# Altium footprint library ic.PcbLib: 16 footprints
Each footprint in its own frame and in the unit in brackets; x right, y up, seen from the top. Pads: shape width x height; smd on the part's side, far side on the other; paste and mask are expansions set on the pad; w line width, h text height; cw(c..) or ccw(c..) is an arc to the next point about the centre after c.
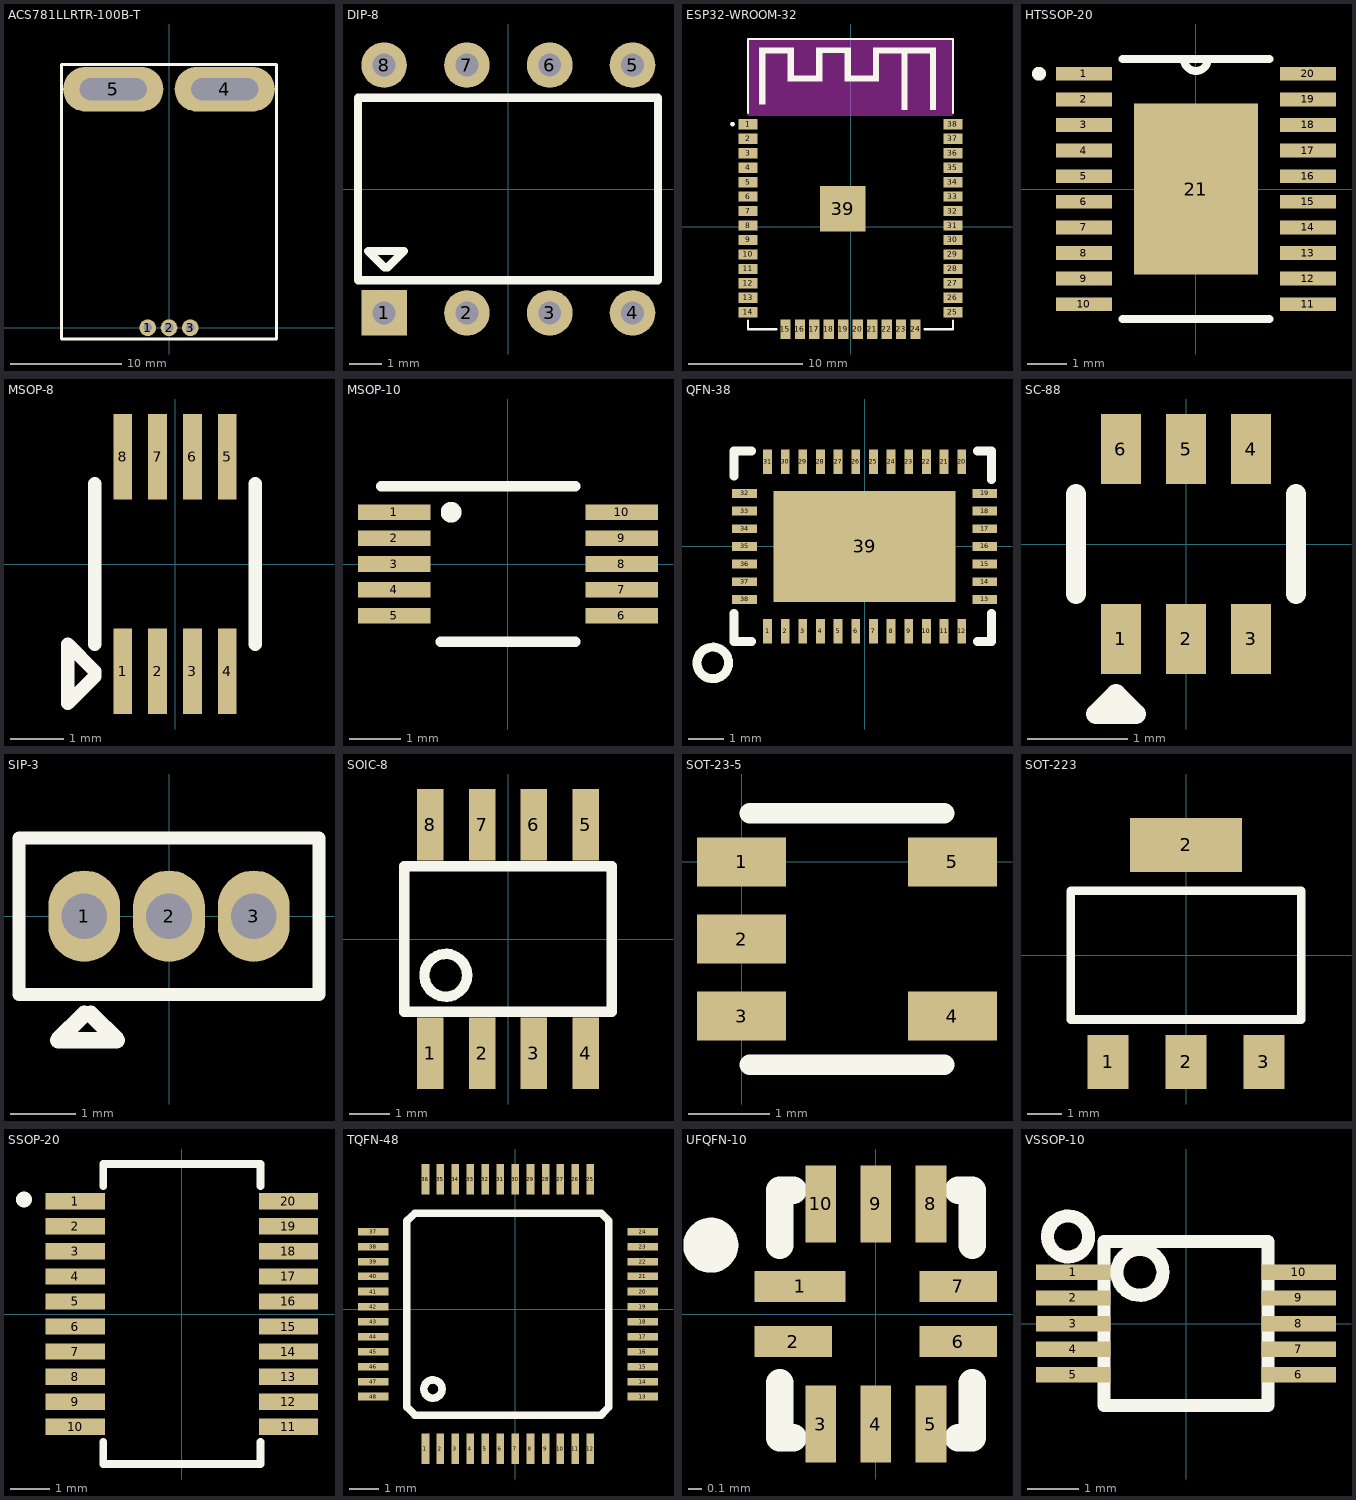
[diagram p0: the footprints below, top view; thin cyan lines are the x and y axes]

## ACS781LLRTR-100B-T [mm]
pads (5):
  round 1.5 hole 0.8: 1(-1.91,0) 2(0,0) 3(1.91,0)
  rrect100% 9x4 hole 2 slot 6 at 0 deg: 4(5,21.4) 5(-5,21.4)
Top Overlay:
  lines w0.254: -9.652,-1.016 9.652,-1.016 9.652,23.622 -9.652,23.622 -9.652,-1.016
3D body "Allegro-CA-CB-PFF-Package.STEP": height 9.07, standoff -1.47, extent -6.952,-0.563 7.048,22.253

## DIP-8 [mm]
pads (8):
  rect 1.4x1.4 hole 0.7: 1(-3.81,-3.8)
  round 1.4 hole 0.7: 2(-1.27,-3.8) 3(1.27,-3.8) 4(3.81,-3.8) 5(3.81,3.8) 6(1.27,3.8) 7(-1.27,3.8) 8(-3.81,3.8)
Top Overlay:
  lines w0.254: -4.61,-2.8 -4.61,2.8 4.59,2.8 4.59,-2.8 -4.61,-2.8 ; -4.3,-1.9 -3.2,-1.9 -3.7,-2.4 -3.8,-2.4 -4.3,-1.9
3D body "DIP8.STEP": height 3.85, standoff -2, extent -4.61,-4.035 4.59,3.835

## ESP32-WROOM-32 [mm]
pads (39):
  rect 1.7x0.9 smd: 1(-9,9.005) 2(-9,7.735) 3(-9,6.465) 4(-9,5.195) 5(-9,3.925) 6(-9,2.655) 7(-9,1.385) 8(-9,0.115) 9(-9,-1.155) 10(-9,-2.425) 11(-9,-3.695) 12(-9,-4.965) 13(-9,-6.235) 14(-9,-7.505) 25(9,-7.505) 26(9,-6.235) 27(9,-4.965) 28(9,-3.695) 29(9,-2.425) 30(9,-1.155) 31(9,0.115) 32(9,1.385) 33(9,2.655) 34(9,3.925) 35(9,5.195) 36(9,6.465) 37(9,7.735) 38(9,9.005)
  rect 0.9x1.7 smd: 15(-5.715,-9.005) 16(-4.445,-9.005) 17(-3.175,-9.005) 18(-1.905,-9.005) 19(-0.635,-9.005) 20(0.635,-9.005) 21(1.905,-9.005) 22(3.175,-9.005) 23(4.445,-9.005) 24(5.715,-9.005)
  rect 4x4 smd: 39(-0.7,1.595)
Top Overlay:
  circle w0.2: c-10.365,9.025 r0.1
  region: 2.008,15.75 2.5,15.75 2.5,14.304 2.008,14.304
  region: -8.02,11.25 -7.5,11.25 -7.5,10.775 -8.02,10.775
  region: 4.508,10.75 5,10.75 5,10.267 4.508,10.267
  region: 7.019,10.75 7.5,10.75 7.5,10.276 7.019,10.276
  region: 4.514,15.75 5,15.75 5,10.781 4.514,10.781
  region: 7.021,15.75 7.5,15.75 7.5,10.78 7.021,10.78
  region: 2.012,15.75 7.5,15.75 7.5,15.264 2.012,15.264
  region: 2.009,15.25 2.5,15.25 2.5,12.803 2.009,12.803
  region: -0.502,13.25 2.5,13.25 2.5,12.8 -0.502,12.8
  region: -0.502,15.25 0,15.25 0,12.799 -0.502,12.799
  region: -3.01,15.75 0,15.75 0,15.299 -3.01,15.299
  region: -3.01,15.25 -2.5,15.25 -2.5,12.791 -3.01,12.791
  region: -5.508,13.25 -2.5,13.25 -2.5,12.768 -5.508,12.768
  region: -5.522,15.25 -5,15.25 -5,12.797 -5.522,12.797
  region: -8.009,15.75 -5,15.75 -5,15.266 -8.009,15.266
  region: -8.022,15.75 -7.5,15.75 -7.5,11.279 -8.022,11.279
  lines w0.2: -9,-8.25 -9,-9 -6.5,-9 ; -9,10 -9,16.5 9,16.5 9,10 ; 6.5,-9 9,-9 9,-8.25
Keep-Out Layer:
  region: -9.024,16.5 9,16.5 9,9.774 -9.024,9.774
  region: -9.012,16.5 9,16.5 9,9.762 -9.012,9.762
  region: -9.026,16.5 9,16.5 9,9.776 -9.026,9.776
  region: -9.024,16.5 9,16.5 9,9.774 -9.024,9.774
  region: -9.012,16.5 9,16.5 9,9.762 -9.012,9.762
  region: -9.026,16.5 9,16.5 9,9.776 -9.026,9.776
  region: -9.024,16.5 9,16.5 9,9.774 -9.024,9.774
  region: -9.012,16.5 9,16.5 9,9.762 -9.012,9.762
  region: -9.026,16.5 9,16.5 9,9.776 -9.026,9.776
3D body "esp-wroom-32.stp": height 3, standoff -0.04, extent -9.035,-9.04 9.035,16.5

## HTSSOP-20 [mil]
pads (21):
  rect 56x13.78 smd: 1(-112,115.16) 2(-112,89.57) 3(-112,63.98) 4(-112,38.39) 5(-112,12.8) 6(-112,-12.8) 7(-112,-38.39) 8(-112,-63.98) 9(-112,-89.57) 10(-112,-115.16) 11(112,-115.16) 12(112,-89.57) 13(112,-63.98) 14(112,-38.39) 15(112,-12.8) 16(112,12.8) 17(112,38.39) 18(112,63.98) 19(112,89.57) 20(112,115.16)
  rect 124x171 smd: 21(0,0)
Top Overlay:
  circle w7.87: c-156.8,115.16 r3
  lines w7.87: -73.51,-130 73.51,-130 ; -73.51,130 73.51,130 ; -12,130 ccw(c0,130) 12,130
3D body "!1_@_0 _ TSSOP-20.stp": height 51.18, standoff -0.73, extent -125.99,-126.83 126.59,129.07

## MSOP-8 [mm]
pads (8):
  rect 0.35x1.6 smd: 1(-0.975,-2) 2(-0.325,-2) 3(0.325,-2) 4(0.975,-2) 5(0.975,2) 6(0.325,2) 7(-0.325,2) 8(-0.975,2)
Top Overlay:
  lines w0.254: -1.5,-1.5 -1.5,1.5 ; 1.5,-1.5 1.5,1.5 ; -2,-2.6 -2,-1.5 -1.5,-2 -1.5,-2.1 -2,-2.6
3D body "User Library-MSOP-8-4.step": height 0.96, standoff 0, extent -1.5,-2.45 1.5,2.45

## MSOP-10 [mm]
pads (10):
  rect 1.4x0.3 smd: 1(-2.2,1) 2(-2.2,0.5) 3(-2.2,0) 4(-2.2,-0.5) 5(-2.2,-1) 6(2.2,-1) 7(2.2,-0.5) 8(2.2,0) 9(2.2,0.5) 10(2.2,1)
Top Overlay:
  circle w0.2: c-1.1,1 r0.1
  lines w0.2: -2.45,1.5 1.3,1.5 ; -1.3,-1.5 1.3,-1.5
3D body "MSOP10-3-0.5mm.STEP": height 1.1, standoff 0, extent -2.45,-1.5 2.45,1.5

## QFN-38 [mm]
pads (39):
  rect 0.25x0.7 smd: 1(-2.75,-2.4) 2(-2.25,-2.4) 3(-1.75,-2.4) 4(-1.25,-2.4) 5(-0.75,-2.4) 6(-0.25,-2.4) 7(0.25,-2.4) 8(0.75,-2.4) 9(1.25,-2.4) 10(1.75,-2.4) 11(2.25,-2.4) 12(2.75,-2.4) 20(2.75,2.4) 21(2.25,2.4) 22(1.75,2.4) 23(1.25,2.4) 24(0.75,2.4) 25(0.25,2.4) 26(-0.25,2.4) 27(-0.75,2.4) 28(-1.25,2.4) 29(-1.75,2.4) 30(-2.25,2.4) 31(-2.75,2.4)
  rect 0.7x0.25 smd: 13(3.4,-1.5) 14(3.4,-1) 15(3.4,-0.5) 16(3.4,0) 17(3.4,0.5) 18(3.4,1) 19(3.4,1.5) 32(-3.4,1.5) 33(-3.4,1) 34(-3.4,0.5) 35(-3.4,0) 36(-3.4,-0.5) 37(-3.4,-1) 38(-3.4,-1.5)
  rect 5.15x3.15 smd paste-100: 39(0,0)
Top Overlay:
  circle w0.254: c-4.3,-3.3 r0.447
  lines w0.254: -3.7,-1.9 -3.7,-2.7 -3.2,-2.7 ; -3.7,2 -3.7,2.7 -3.2,2.7 ; 3.2,-2.7 3.6,-2.7 3.6,-1.9 ; 3.2,2.7 3.6,2.7 3.6,1.9
Top Paste:
  rectangle: 1,0.3 2,1.3
  rectangle: 1,-1.3 2,-0.3
  rectangle: -0.5,0.3 0.5,1.3
  rectangle: -0.5,-1.3 0.5,-0.3
  rectangle: -2,-1.3 -1,-0.3
  rectangle: -2,0.3 -1,1.3
3D body "User Library-QFN-38.X_T": height 1.04, standoff -0.09, extent -3.51,-2.55 3.51,2.47

## SC-88 [mm]
pads (6):
  rect 0.4x0.7 smd: 1(-0.65,-0.95) 2(0,-0.95) 3(0.65,-0.95) 4(0.65,0.95) 5(0,0.95) 6(-0.65,0.95)
Top Overlay:
  lines w0.2: -1.1,-0.5 -1.1,0.5 ; 1.1,-0.5 1.1,0.5 ; -0.9,-1.7 -0.5,-1.7 -0.7,-1.5 -0.9,-1.7
3D body "SC-88.stp": height 1.1, standoff 0, extent -1.1,-1.2 1.1,1.2

## SIP-3 [mm]
pads (3):
  oval 1.1x1.4 hole 0.7: 1(-1.3,0) 2(0,0) 3(1.3,0)
Top Overlay:
  lines w0.2: -2.3,-1.2 2.3,-1.2 2.3,1.2 -2.3,1.2 -2.3,-1.2
  lines w0.254: -1.3,-1.5 -1.7,-1.9 -0.8,-1.9 -1.2,-1.5
3D body "E-Line.step": height 3.9, standoff -5, extent -2.285,-1.14 2.285,1.14

## SOIC-8 [mm]
pads (8):
  rect 0.65x1.75 smd: 1(-1.905,-2.8) 2(-0.635,-2.8) 3(0.635,-2.8) 4(1.905,-2.8) 5(1.905,2.8) 6(0.635,2.8) 7(-0.635,2.8) 8(-1.905,2.8)
Top Overlay:
  circle w0.254: c-1.524,-0.889 r0.524
  lines w0.254: -2.54,-1.778 -2.54,1.778 2.54,1.778 2.54,-1.778 -2.54,-1.778
3D body "S08.stp": height 1.55, standoff 0, extent -2.445,-3 2.455,3

## SOT-23-5 [mm]
pads (5):
  rect 1.1x0.6 smd: 1(0,0) 2(0,-0.95) 3(0,-1.9) 4(2.6,-1.9) 5(2.6,0)
Top Overlay:
  lines w0.254: 0.1,-2.5 2.5,-2.5 ; 0.1,0.6 2.5,0.6
3D body "SOT23_5.stp": height 0.92, standoff 0.01, extent -0.302,-2.45 2.902,0.55

## SOT-223 [mm]
pads (4):
  rect 1.2x1.6 smd: 1(-2.3,-3.15) 2(0,-3.15) 3(2.3,-3.15)
  rect 3.3x1.6 smd: 2(0,3.25)
Top Overlay:
  lines w0.254: -3.4,-1.9 3.4,-1.9 3.4,1.9 -3.4,1.9 -3.4,-1.9
3D body "SOT223.STEP": height 1.6, standoff -0.1, extent -3.25,-3.562 3.25,3.462

## SSOP-20 [mm]
pads (20):
  rect 1.5x0.41 smd: 1(-2.7,2.857) 2(-2.7,2.222) 3(-2.7,1.587) 4(-2.7,0.953) 5(-2.7,0.318) 6(-2.7,-0.318) 7(-2.7,-0.953) 8(-2.7,-1.587) 9(-2.7,-2.222) 10(-2.7,-2.857) 11(2.7,-2.857) 12(2.7,-2.222) 13(2.7,-1.587) 14(2.7,-0.953) 15(2.7,-0.318) 16(2.7,0.318) 17(2.7,0.953) 18(2.7,1.587) 19(2.7,2.222) 20(2.7,2.857)
Top Overlay:
  circle w0.2: c-4,2.9 r0.1
  lines w0.2: -1.99,-3.24 -1.99,-3.8 1.99,-3.8 1.99,-3.24 ; -1.99,3.24 -1.99,3.8 1.99,3.8 1.99,3.24
3D body "SSOP20L-150-0.64.STEP": height 1.63, standoff 0, extent -2.997,-3.725 2.997,3.725

## TQFN-48 [mil]
pads (48):
  rect 10x40 smd: 1(-118.27,-184.17) 2(-98.58,-184.17) 3(-78.9,-184.17) 4(-59.21,-184.17) 5(-39.53,-184.17) 6(-19.84,-184.17) 7(0,-184.17) 8(20,-184.17) 9(40,-184.17) 10(59,-184.17) 11(79,-184.17) 12(99,-184.17) 25(99,171) 26(79,171) 27(59,171) 28(40,171) 29(20,171) 30(0,171) 31(-19.84,171) 32(-39.53,171) 33(-59.21,171) 34(-78.9,171) 35(-98.58,171) 36(-118.27,171)
  rect 40x10 smd: 13(168,-115.27) 14(168,-95.58) 15(168,-75.9) 16(168,-56.21) 17(168,-36.53) 18(168,-16.84) 19(168,3) 20(168,23) 21(168,43) 22(168,62) 23(168,82) 24(168,102) 37(-187.17,102) 38(-187.17,82) 39(-187.17,62) 40(-187.17,43) 41(-187.17,23) 42(-187.17,3) 43(-187.17,-16.84) 44(-187.17,-36.53) 45(-187.17,-56.21) 46(-187.17,-75.9) 47(-187.17,-95.58) 48(-187.17,-115.27)
Top Overlay:
  circle w10: c-108.43,-105.43 r12
  lines w10: -142.87,-129.05 -132.05,-139.87 113,-139.87 123,-129.05 123,116 113,126 -132.05,126 -142.87,116 -142.87,-129.05
3D body "User Library-TQFP48.step": height 43.31, standoff 0, extent -187.51,-184.5 167.51,170.51

## UFQFN-10 [mm]
pads (10):
  rect 0.663x0.225 smd: 1(-0.55,0.2)
  rect 0.563x0.225 smd: 2(-0.6,-0.2) 6(0.6,-0.2) 7(0.6,0.2)
  rect 0.225x0.563 smd: 3(-0.4,-0.8) 4(0,-0.8) 5(0.4,-0.8) 8(0.4,0.8) 9(0,0.8) 10(-0.4,0.8)
Top Overlay:
  circle w0.2: c-1.2,0.5 r0.1
  lines w0.2: -0.7,-0.5 -0.7,-0.9 -0.6,-0.9 ; -0.7,0.5 -0.7,0.9 -0.6,0.9 ; 0.6,-0.9 0.7,-0.9 0.7,-0.5 ; 0.6,0.9 0.7,0.9 0.7,0.5
3D body "User Library-UMLP-10.STEP": height 0.5, standoff 0, extent -0.72,-0.92 0.72,0.92

## VSSOP-10 [mm]
height 1.1
pads (10):
  rect 1.45x0.3 smd: 1(-2.2,1) 2(-2.2,0.5) 3(-2.2,0) 4(-2.2,-0.5) 5(-2.2,-1) 6(2.2,-1) 7(2.2,-0.5) 8(2.2,0) 9(2.2,0.5) 10(2.2,1)
Top Overlay:
  circle w0.254: c-0.9,1 r0.447
  circle w0.254: c-2.3,1.7 r0.4
  lines w0.254: -1.6,-1.6 -1.6,1.6 1.6,1.6 1.6,-1.6 -1.6,-1.6
3D body "MSOP-10.STEP": height 1.2, standoff 0, extent -2.46,-1.5 2.46,1.5